# Altium footprint library MainShunt.PcbLib: 6 footprints
Each footprint in its own frame and in the unit in brackets; x right, y up, seen from the top. Pads: shape width x height; smd on the part's side, far side on the other; paste and mask are expansions set on the pad; w line width, h text height; cw(c..) or ccw(c..) is an arc to the next point about the centre after c.
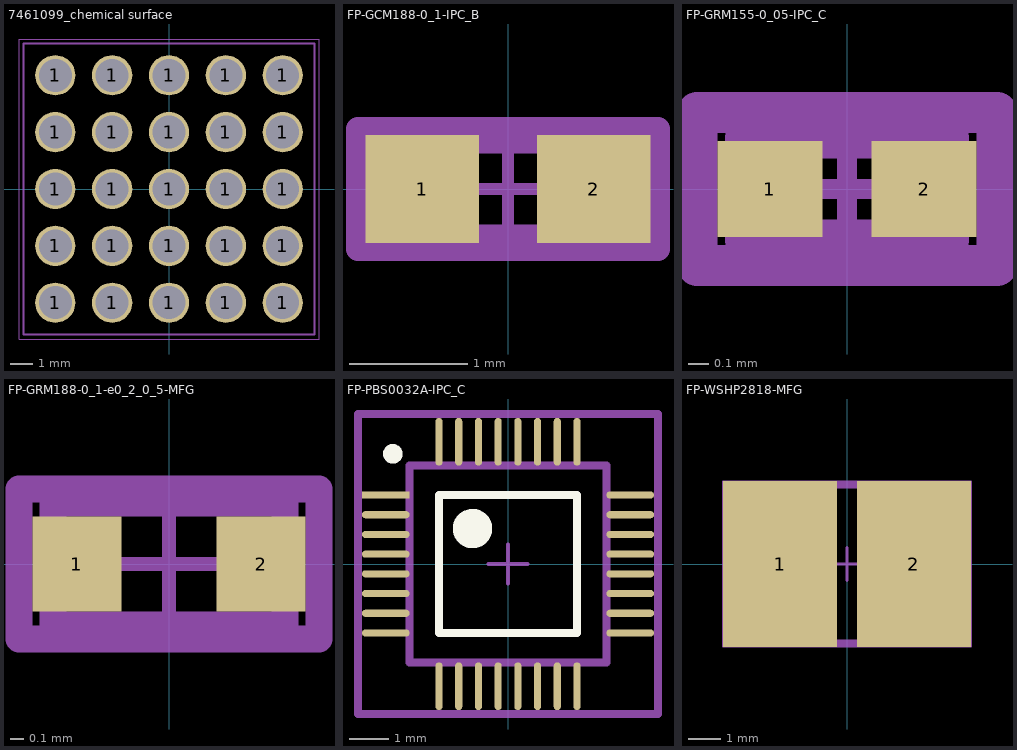
[diagram p0: the footprints below, top view; thin cyan lines are the x and y axes]

## 7461099_chemical surface [mm] "M8, blind 8mm"
height 13.5
pads (25):
  round 1.8 hole 1.475: 1(-5.08,-5.08) 1(-5.08,-2.54) 1(-5.08,0) 1(-5.08,2.54) 1(-5.08,5.08) 1(-2.54,-5.08) 1(-2.54,-2.54) 1(-2.54,0) 1(-2.54,2.54) 1(-2.54,5.08) 1(0,-5.08) 1(0,-2.54) 1(0,0) 1(0,2.54) 1(0,5.08) 1(2.54,-5.08) 1(2.54,-2.54) 1(2.54,0) 1(2.54,2.54) 1(2.54,5.08) 1(5.08,-5.08) 1(5.08,-2.54) 1(5.08,0) 1(5.08,2.54) 1(5.08,5.08)
Top Designator:
  text ".Designator" at -7.498,-0.5 h1.5
Top Component Outline:
  lines w0.1: -6.5,-6.5 -6.5,6.5 6.5,6.5 6.5,-6.5 -6.5,-6.5
Top 3D Body:
  lines w0.1: -6.5,-6.5 -6.5,6.5 6.5,6.5 6.5,-6.5 -6.5,-6.5
Top Courtyard:
  lines w0.05: -0.5,0 0.5,0 ; 0,-0.5 0,0.5 ; -6.7,-6.7 6.7,-6.7 6.7,6.7 -6.7,6.7 -6.7,-6.7
3D body "7461099.stp": height 13.5, standoff -3.5, extent -6.5,-6.5 6.5,6.5

## FP-GCM188-0_1-IPC_B [mm]
height 2.95
pads (2):
  rect 0.959x0.912 smd paste+0 mask+0: 1(-0.727,0) 2(0.727,0)
Top Assembly:
  lines w0.2: -1.27,-0.508 -1.27,0.508 1.27,0.508 1.27,-0.508 -1.27,-0.508
  text ".Designator" at 0,0.188 h1
Top 3D Body:
  lines w0.2: -0.8,-0.4 -0.8,0.4 0.8,0.4 0.8,-0.4 -0.8,-0.4
Top Courtyard:
  lines w0.2: -1.27,-0.508 1.27,-0.508 1.27,0.508 -1.27,0.508 -1.27,-0.508
Top Component Center:
  lines w0.1: -0.5,0 0.5,0 ; 0,-0.5 0,0.5
3D body "Cap_Murata_GCM1885C2A5R3BA16J_eec.STEP": height 0.25, standoff 0, extent -1.456,-0.706 1.456,0.706

## FP-GRM155-0_05-IPC_C [mm]
height 2.95
pads (2):
  rect 0.515x0.472 smd paste+0 mask+0: 1(-0.379,0) 2(0.379,0)
Top Assembly:
  lines w0.2: -0.736,-0.375 -0.736,0.375 0.736,0.375 0.736,-0.375 -0.736,-0.375
  text ".Designator" at 0,0.188 h1
Top 3D Body:
  lines w0.2: -0.5,-0.25 -0.5,0.25 0.5,0.25 0.5,-0.25 -0.5,-0.25
Top Courtyard:
  lines w0.2: -0.736,-0.375 -0.736,0.375 0.736,0.375 0.736,-0.375 -0.736,-0.375
Top Component Center:
  lines w0.1: -0.5,0 0.5,0 ; 0,-0.254 0,0.254
3D body "Cap_Murata_GRM1552C1H271GA01J_eec.STEP": height 0.25, standoff 0, extent -0.736,-0.375 0.736,0.375

## FP-GRM188-0_1-e0_2_0_5-MFG [mm]
height 2.95
pads (2):
  rect 0.65x0.7 smd paste+0 mask+0: 1(-0.675,0) 2(0.675,0)
Top Assembly:
  lines w0.2: -1.1,-0.55 -1.1,0.55 1.1,0.55 1.1,-0.55 -1.1,-0.55
  text ".Designator" at 0,0.188 h1
Top 3D Body:
  lines w0.2: -0.85,-0.45 -0.85,0.45 0.85,0.45 0.85,-0.45 -0.85,-0.45
Top Courtyard:
  lines w0.2: -1.1,-0.55 -1.1,0.55 1.1,0.55 1.1,-0.55 -1.1,-0.55
Top Component Center:
  lines w0.1: -0.5,0 0.5,0 ; 0,-0.5 0,0.5
3D body "Cap_Murata_GRM188R61E225KA12D_eec.STEP": height 0.25, standoff 0, extent -1.1,-0.55 1.1,0.55

## FP-PBS0032A-IPC_C [mm]
height 2.95
pads (32):
  rect 1.209x0.183 smd paste+0 mask+0: 1(-3.102,1.75)
  rrect100% 1.209x0.183 smd paste+0 mask+0: 2(-3.102,1.25) 3(-3.102,0.75) 4(-3.102,0.25) 5(-3.102,-0.25) 6(-3.102,-0.75) 7(-3.102,-1.25) 8(-3.102,-1.75) 17(3.102,-1.75) 18(3.102,-1.25) 19(3.102,-0.75) 20(3.102,-0.25) 21(3.102,0.25) 22(3.102,0.75) 23(3.102,1.25) 24(3.102,1.75)
  rrect100% 0.183x1.209 smd paste+0 mask+0: 9(-1.75,-3.102) 10(-1.25,-3.102) 11(-0.75,-3.102) 12(-0.25,-3.102) 13(0.25,-3.102) 14(0.75,-3.102) 15(1.25,-3.102) 16(1.75,-3.102) 25(1.75,3.102) 26(1.25,3.102) 27(0.75,3.102) 28(0.25,3.102) 29(-0.25,3.102) 30(-0.75,3.102) 31(-1.25,3.102) 32(-1.75,3.102)
Top Overlay:
  circle w0.5: c-0.9,0.9 r0.25
  circle w0.25: c-2.921,2.794 r0.125
  lines w0.2: -1.75,-1.75 -1.75,1.75 1.75,1.75 1.75,-1.75 -1.75,-1.75
Top Assembly:
  lines w0.2: -3.806,-3.806 -3.806,3.806 3.806,3.806 3.806,-3.806 -3.806,-3.806
  text ".Designator" at 0,-0.001 h1
Top 3D Body:
  lines w0.2: -2.5,-2.5 -2.5,2.5 2.5,2.5 2.5,-2.5 -2.5,-2.5
Top Courtyard:
  lines w0.2: -3.806,-3.806 -3.806,3.806 3.806,3.806 3.806,-3.806 -3.806,-3.806
Top Component Center:
  lines w0.1: -0.5,0 0.5,0 ; 0,-0.5 0,0.5

## FP-WSHP2818-MFG [mm]
height 2.95
pads (2):
  rect 3.5x5.1 smd paste+0 mask+0: 1(-2.055,0) 2(2.055,0)
Top Assembly:
  lines w0.05: -3.81,-2.54 3.81,-2.54 3.81,2.54 -3.81,2.54 -3.81,-2.54
  text ".Designator" at 0,0.188 h1
Top 3D Body:
  lines w0.2: -3.675,-2.425 3.675,-2.425 3.675,2.425 -3.675,2.425 -3.675,-2.425
Top Courtyard:
  lines w0.05: -3.81,-2.54 3.81,-2.54 3.81,2.54 -3.81,2.54 -3.81,-2.54
Top Component Center:
  lines w0.1: -0.5,0 0.5,0 ; 0,-0.5 0,0.5
3D body "Res_Vishay_WSHP28182L000FEB_eec.STEP": height 0.25, standoff 0, extent -3.905,-2.65 3.905,2.65